# Altium integrated library Linear Technology PMIC-Switching Reg LTC1174-LTC3901.IntLib: 2647 symbols (part 189 of 310)
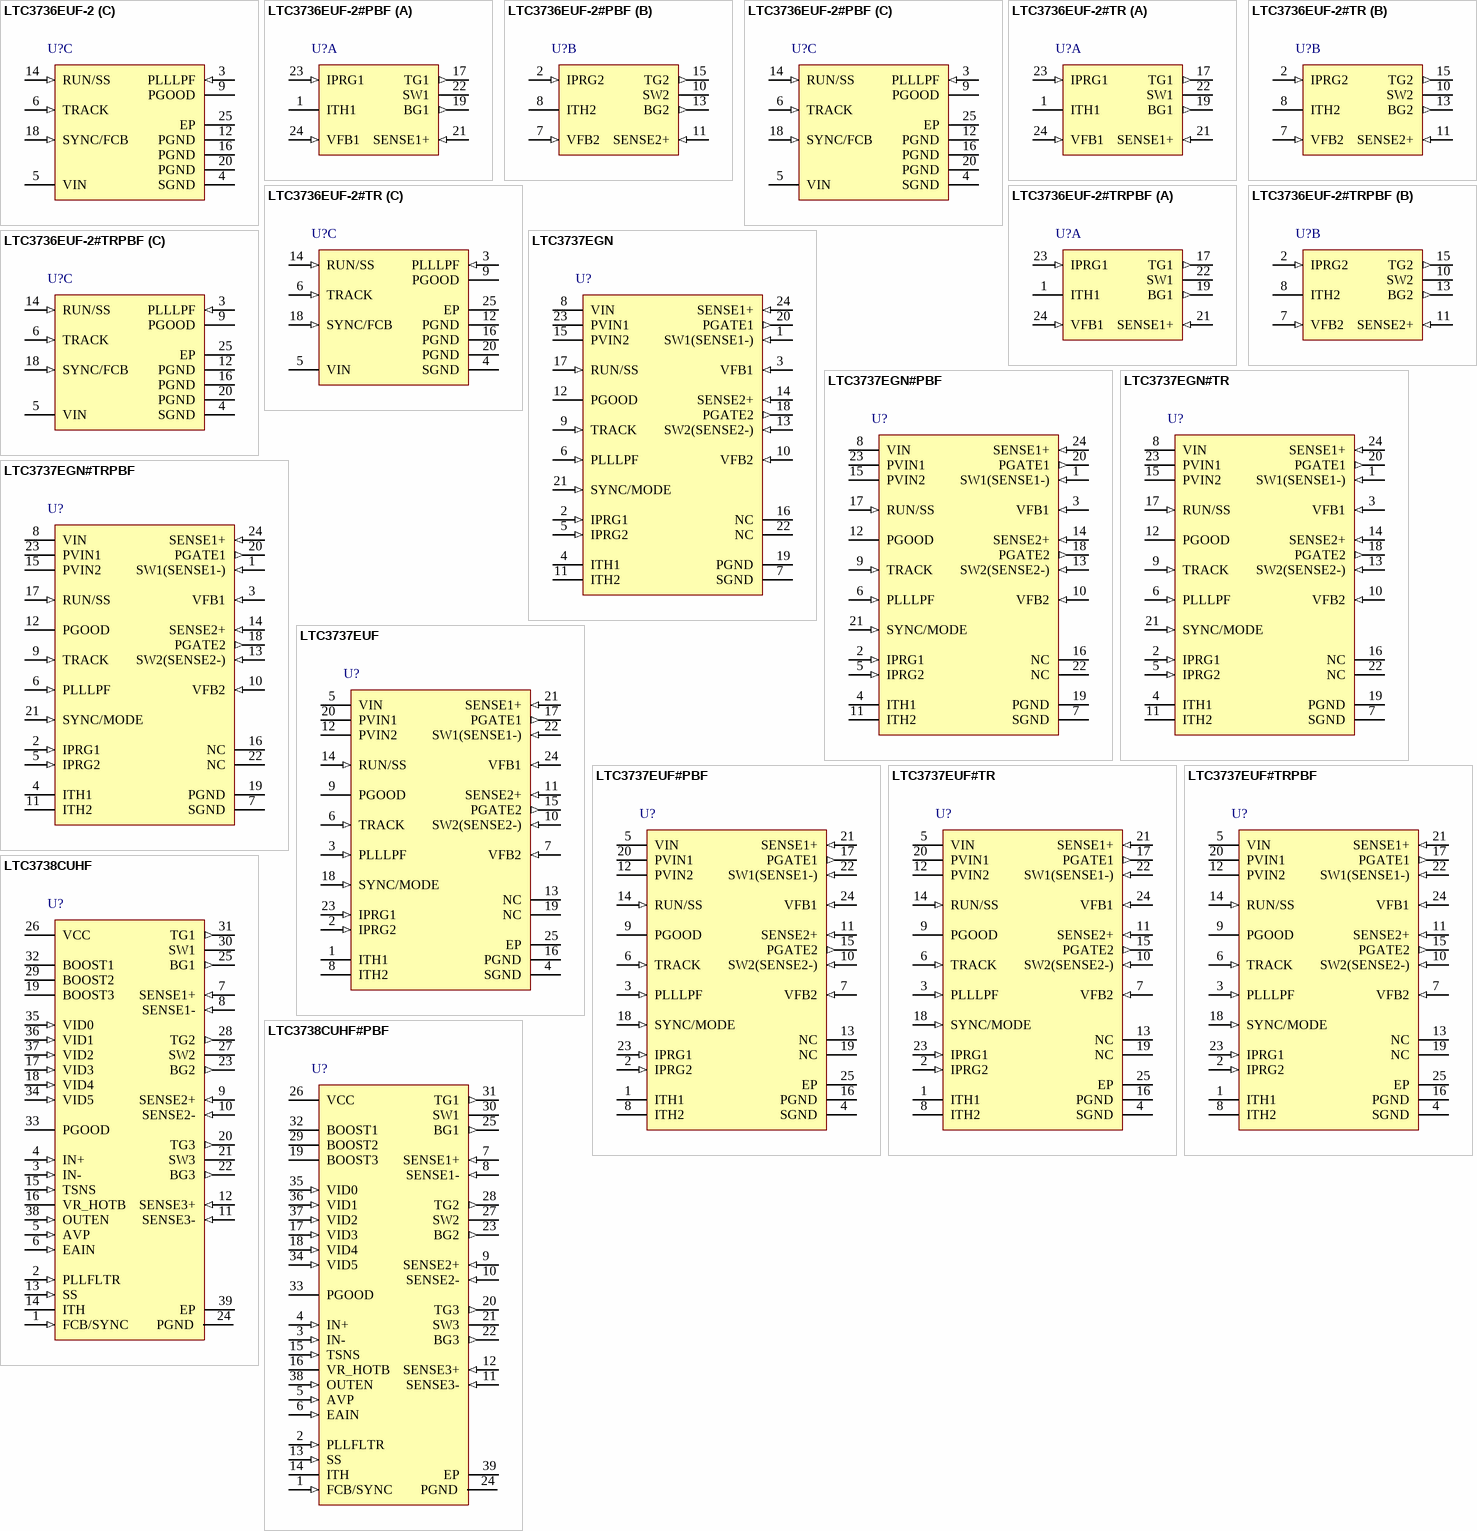
[diagram p225: symbols LTC3736EUF-2 to LTC3738CUHF#PBF]

## LTC3738CUHF
designator U?
3-Phase Buck Controller for Intel VRM9 / VRM10 with Active Voltage Positioning, 38-pin QFN (UHF-38), 0 to 85 degC; Manufacturer: Linear Technology; PartNumber: LTC3738CUHF; Number of Outputs: 1; PackageReference: UHF-38; PackageDescription: 38-Pin Plastic QFN, Body 7 x 5 mm, Pitch 0.5 mm; Supplier 1: Digi-Key; Supplier Part Number 1: LTC3738CUHF-ND; RoHS: FALSE; Code_JEDEC: MO-220
footprint LT-UHF-38_N (QFN, 38-Leads, Body 7.1x5.1mm, Pitch 0.5mm, Thermal Pad 3.15x5.15mm, IPC Medium Density)
footprint LT-UHF-38_L (QFN, 38-Leads, Body 7.1x5.1mm, Pitch 0.5mm, Thermal Pad 3.15x5.15mm, IPC High Density)
footprint LT-UHF-38_M (QFN, 38-Leads, Body 7.1x5.1mm, Pitch 0.5mm, Thermal Pad 3.15x5.15mm, IPC Low Density)
pins: 1 FCB/SYNC (in) "Forced Continuous Control Input. The voltage applied to this pin sets the operating mode of the controller. The forced continuous current mode is active when the applied voltage is less than 0.6V. Pulse skip mode operation (See Datasheet)", 2 PLLFLTR (in) "The phase-locked loop’s lowpass filter is tied to this pin. Alternatively, this pin can be driven with an AC or DC voltage source to vary the frequency of the internal oscillator. (Do not apply voltage to this pin prior t(See Datasheet)", 3 IN- (in) "Inputs to a Precision, Unity-Gain Differential Amplifier with Internal Precision Resistors. This provides true remote sensing of both the positive and negative load terminals for precise output voltage control.", 4 IN+ (in) "Inputs to a Precision, Unity-Gain Differential Amplifier with Internal Precision Resistors. This provides true remote sensing of both the positive and negative load terminals for precise output voltage control.", 5 AVP (in) "Active Voltage Positioning Load Slope Programming Pin. A resistor tied between this pin and IN+ sets the load slope.", 6 EAIN (in) "This is the input to the error amplifier which compares the VID divided feedback voltage to the internal 0.6V reference voltage.", 7 SENSE1+ (in) "The Inputs to Each Differential Current Comparator. The ITH pin voltage and built-in offsets between the SENSE-  and SENSE+  pins, in conjunction with RSENSE, set the current trip threshold level.", 8 SENSE1- (in) "The Inputs to Each Differential Current Comparator. The ITH pin voltage and built-in offsets between the SENSE-  and SENSE+  pins, in conjunction with RSENSE, set the current trip threshold level.", 9 SENSE2+ (in) "The Inputs to Each Differential Current Comparator. The ITH pin voltage and built-in offsets between the SENSE-  and SENSE+  pins, in conjunction with RSENSE, set the current trip threshold level.", 10 SENSE2- (in) "The Inputs to Each Differential Current Comparator. The ITH pin voltage and built-in offsets between the SENSE-  and SENSE+  pins, in conjunction with RSENSE, set the current trip threshold level.", 11 SENSE3- (in) "The Inputs to Each Differential Current Comparator. The ITH pin voltage and built-in offsets between the SENSE-  and SENSE+  pins, in conjunction with RSENSE, set the current trip threshold level.", 12 SENSE3+ (in) "The Inputs to Each Differential Current Comparator. The ITH pin voltage and built-in offsets between the SENSE-  and SENSE+  pins, in conjunction with RSENSE, set the current trip threshold level.", 13 SS (in) "Combination of Soft-Start and Short-Circuit Detection Timer. A capacitor to ground at this pin sets the ramp time to full current output as well as the time delay prior to an output voltage short-circuit shutdown.", 14 ITH "Error Amplifier Output and Switching Regulator Compensation Point. All three current comparator’s thresholds increase with this control voltage.", 15 TSNS (in) "This pin selects external or internal thermal detection. Tying this pin to VCC will enable the internal thermal detector. When the voltage at this pin is less than VCC - 1.6V, the internal thermal detector is disabled and (See Datasheet)", 16 VR_HOTB (oc) "This open-collector output is pulled low when voltage at the TSNS pin is less than VCC/3. If TSNS is tied to VCC, this pin is pulled low when the internal thermal detector is tripped.", 17 VID3 (in) "Output Voltage Programming Input Pins. When VID5 is tied to VCC, the Intel VRM9 VID table is selected. When voltage of VID5 is less than VCC - 2V, VID5 serves as the fifth VID bit of VRM10.", 18 VID4 (in) "Output Voltage Programming Input Pins. When VID5 is tied to VCC, the Intel VRM9 VID table is selected. When voltage of VID5 is less than VCC - 2V, VID5 serves as the fifth VID bit of VRM10.", 19 BOOST3 "Positive Supply Pins to the Topside Floating Drivers. Bootstrapped capacitors, charged with external Schottky diodes and a boost voltage source are connected between the BOOST and SW pins. Voltage swing at the BOOST pins is (See Datasheet)", 20 TG3 (out) "High Current Gate Drives for Top N-Channel MOSFETs. These are the outputs of the floating drivers with a voltage swing equal to the boost voltage source superimposed on the switch node voltage SW.", 21 SW3 "Switch Node Connections to Inductors. Voltage swing at these pins is from a Schottky diode (external) voltage drop below ground to VIN (where VIN is the external MOSFET supply rail).", 22 BG3 (out) "High Current Gate Drives for the Bottom N-Channel MOSFETs. Voltage swing at these pins is from ground to VCC.", 23 BG2 (out) "High Current Gate Drives for the Bottom N-Channel MOSFETs. Voltage swing at these pins is from ground to VCC.", 24 PGND (power) "Driver Power Ground. This pin connects to the sources of the bottom N-channel external MOSFETs and the (-) terminals of CIN.", 25 BG1 (out) "High Current Gate Drives for the Bottom N-Channel MOSFETs. Voltage swing at these pins is from ground to VCC.", 26 VCC (power) "Supply Pin. Because this pin supplies both the controller circuit power as well as the high power pulses supplied to drive the external MOSFET gates, this pin needs to be very carefully and closely decoupled to the IC’(See Datasheet)", 27 SW2 "Switch Node Connections to Inductors. Voltage swing at these pins is from a Schottky diode (external) voltage drop below ground to VIN (where VIN is the external MOSFET supply rail).", 28 TG2 (out) "High Current Gate Drives for Top N-Channel MOSFETs. These are the outputs of the floating drivers with a voltage swing equal to the boost voltage source superimposed on the switch node voltage SW.", 29 BOOST2 "Positive Supply Pins to the Topside Floating Drivers. Bootstrapped capacitors, charged with external Schottky diodes and a boost voltage source are connected between the BOOST and SW pins. Voltage swing at the BOOST pins is (See Datasheet)", 30 SW1 "Switch Node Connections to Inductors. Voltage swing at these pins is from a Schottky diode (external) voltage drop below ground to VIN (where VIN is the external MOSFET supply rail).", 31 TG1 (out) "High Current Gate Drives for Top N-Channel MOSFETs. These are the outputs of the floating drivers with a voltage swing equal to the boost voltage source superimposed on the switch node voltage SW.", 32 BOOST1 "Positive Supply Pins to the Topside Floating Drivers. Bootstrapped capacitors, charged with external Schottky diodes and a boost voltage source are connected between the BOOST and SW pins. Voltage swing at the BOOST pins is (See Datasheet)", 33 PGOOD (oc) "This open-drain output is pulled low when the output voltage is outside the PGOOD tolerance window. PGOOD is blanked during VID transitions for approximately 100us.", 34 VID5 (in) "Output Voltage Programming Input Pins. When VID5 is tied to VCC, the Intel VRM9 VID table is selected. When voltage of VID5 is less than VCC - 2V, VID5 serves as the fifth VID bit of VRM10.", 35 VID0 (in) "Output Voltage Programming Input Pins. When VID5 is tied to VCC, the Intel VRM9 VID table is selected. When voltage of VID5 is less than VCC - 2V, VID5 serves as the fifth VID bit of VRM10.", 36 VID1 (in) "Output Voltage Programming Input Pins. When VID5 is tied to VCC, the Intel VRM9 VID table is selected. When voltage of VID5 is less than VCC - 2V, VID5 serves as the fifth VID bit of VRM10.", 37 VID2 (in) "Output Voltage Programming Input Pins. When VID5 is tied to VCC, the Intel VRM9 VID table is selected. When voltage of VID5 is less than VCC - 2V, VID5 serves as the fifth VID bit of VRM10.", 38 OUTEN (in) "On/Off Control of the Controller.", 39 EP (power) "Signal Ground. This pin must be soldered to the ground plane."

## LTC3738CUHF#PBF
designator U?
3-Phase Buck Controller for Intel VRM9 / VRM10 with Active Voltage Positioning, 38-pin QFN (UHF-38), 0 to 85 degC, Pb-Free; Manufacturer: Linear Technology; PartNumber: LTC3738CUHF#PBF; Number of Outputs: 1; PackageReference: UHF-38; PackageDescription: 38-Pin Plastic QFN, Body 7 x 5 mm, Pitch 0.5 mm; Supplier 1: Digi-Key; Supplier Part Number 1: LTC3738CUHF#PBF-ND; RoHS: TRUE; Code_JEDEC: MO-220
footprint LT-UHF-38_N (QFN, 38-Leads, Body 7.1x5.1mm, Pitch 0.5mm, Thermal Pad 3.15x5.15mm, IPC Medium Density)
footprint LT-UHF-38_L (QFN, 38-Leads, Body 7.1x5.1mm, Pitch 0.5mm, Thermal Pad 3.15x5.15mm, IPC High Density)
footprint LT-UHF-38_M (QFN, 38-Leads, Body 7.1x5.1mm, Pitch 0.5mm, Thermal Pad 3.15x5.15mm, IPC Low Density)
pins: 1 FCB/SYNC (in) "Forced Continuous Control Input. The voltage applied to this pin sets the operating mode of the controller. The forced continuous current mode is active when the applied voltage is less than 0.6V. Pulse skip mode operation (See Datasheet)", 2 PLLFLTR (in) "The phase-locked loop’s lowpass filter is tied to this pin. Alternatively, this pin can be driven with an AC or DC voltage source to vary the frequency of the internal oscillator. (Do not apply voltage to this pin prior t(See Datasheet)", 3 IN- (in) "Inputs to a Precision, Unity-Gain Differential Amplifier with Internal Precision Resistors. This provides true remote sensing of both the positive and negative load terminals for precise output voltage control.", 4 IN+ (in) "Inputs to a Precision, Unity-Gain Differential Amplifier with Internal Precision Resistors. This provides true remote sensing of both the positive and negative load terminals for precise output voltage control.", 5 AVP (in) "Active Voltage Positioning Load Slope Programming Pin. A resistor tied between this pin and IN+ sets the load slope.", 6 EAIN (in) "This is the input to the error amplifier which compares the VID divided feedback voltage to the internal 0.6V reference voltage.", 7 SENSE1+ (in) "The Inputs to Each Differential Current Comparator. The ITH pin voltage and built-in offsets between the SENSE-  and SENSE+  pins, in conjunction with RSENSE, set the current trip threshold level.", 8 SENSE1- (in) "The Inputs to Each Differential Current Comparator. The ITH pin voltage and built-in offsets between the SENSE-  and SENSE+  pins, in conjunction with RSENSE, set the current trip threshold level.", 9 SENSE2+ (in) "The Inputs to Each Differential Current Comparator. The ITH pin voltage and built-in offsets between the SENSE-  and SENSE+  pins, in conjunction with RSENSE, set the current trip threshold level.", 10 SENSE2- (in) "The Inputs to Each Differential Current Comparator. The ITH pin voltage and built-in offsets between the SENSE-  and SENSE+  pins, in conjunction with RSENSE, set the current trip threshold level.", 11 SENSE3- (in) "The Inputs to Each Differential Current Comparator. The ITH pin voltage and built-in offsets between the SENSE-  and SENSE+  pins, in conjunction with RSENSE, set the current trip threshold level.", 12 SENSE3+ (in) "The Inputs to Each Differential Current Comparator. The ITH pin voltage and built-in offsets between the SENSE-  and SENSE+  pins, in conjunction with RSENSE, set the current trip threshold level.", 13 SS (in) "Combination of Soft-Start and Short-Circuit Detection Timer. A capacitor to ground at this pin sets the ramp time to full current output as well as the time delay prior to an output voltage short-circuit shutdown.", 14 ITH "Error Amplifier Output and Switching Regulator Compensation Point. All three current comparator’s thresholds increase with this control voltage.", 15 TSNS (in) "This pin selects external or internal thermal detection. Tying this pin to VCC will enable the internal thermal detector. When the voltage at this pin is less than VCC - 1.6V, the internal thermal detector is disabled and (See Datasheet)", 16 VR_HOTB (oc) "This open-collector output is pulled low when voltage at the TSNS pin is less than VCC/3. If TSNS is tied to VCC, this pin is pulled low when the internal thermal detector is tripped.", 17 VID3 (in) "Output Voltage Programming Input Pins. When VID5 is tied to VCC, the Intel VRM9 VID table is selected. When voltage of VID5 is less than VCC - 2V, VID5 serves as the fifth VID bit of VRM10.", 18 VID4 (in) "Output Voltage Programming Input Pins. When VID5 is tied to VCC, the Intel VRM9 VID table is selected. When voltage of VID5 is less than VCC - 2V, VID5 serves as the fifth VID bit of VRM10.", 19 BOOST3 "Positive Supply Pins to the Topside Floating Drivers. Bootstrapped capacitors, charged with external Schottky diodes and a boost voltage source are connected between the BOOST and SW pins. Voltage swing at the BOOST pins is (See Datasheet)", 20 TG3 (out) "High Current Gate Drives for Top N-Channel MOSFETs. These are the outputs of the floating drivers with a voltage swing equal to the boost voltage source superimposed on the switch node voltage SW.", 21 SW3 "Switch Node Connections to Inductors. Voltage swing at these pins is from a Schottky diode (external) voltage drop below ground to VIN (where VIN is the external MOSFET supply rail).", 22 BG3 (out) "High Current Gate Drives for the Bottom N-Channel MOSFETs. Voltage swing at these pins is from ground to VCC.", 23 BG2 (out) "High Current Gate Drives for the Bottom N-Channel MOSFETs. Voltage swing at these pins is from ground to VCC.", 24 PGND (power) "Driver Power Ground. This pin connects to the sources of the bottom N-channel external MOSFETs and the (-) terminals of CIN.", 25 BG1 (out) "High Current Gate Drives for the Bottom N-Channel MOSFETs. Voltage swing at these pins is from ground to VCC.", 26 VCC (power) "Supply Pin. Because this pin supplies both the controller circuit power as well as the high power pulses supplied to drive the external MOSFET gates, this pin needs to be very carefully and closely decoupled to the IC’(See Datasheet)", 27 SW2 "Switch Node Connections to Inductors. Voltage swing at these pins is from a Schottky diode (external) voltage drop below ground to VIN (where VIN is the external MOSFET supply rail).", 28 TG2 (out) "High Current Gate Drives for Top N-Channel MOSFETs. These are the outputs of the floating drivers with a voltage swing equal to the boost voltage source superimposed on the switch node voltage SW.", 29 BOOST2 "Positive Supply Pins to the Topside Floating Drivers. Bootstrapped capacitors, charged with external Schottky diodes and a boost voltage source are connected between the BOOST and SW pins. Voltage swing at the BOOST pins is (See Datasheet)", 30 SW1 "Switch Node Connections to Inductors. Voltage swing at these pins is from a Schottky diode (external) voltage drop below ground to VIN (where VIN is the external MOSFET supply rail).", 31 TG1 (out) "High Current Gate Drives for Top N-Channel MOSFETs. These are the outputs of the floating drivers with a voltage swing equal to the boost voltage source superimposed on the switch node voltage SW.", 32 BOOST1 "Positive Supply Pins to the Topside Floating Drivers. Bootstrapped capacitors, charged with external Schottky diodes and a boost voltage source are connected between the BOOST and SW pins. Voltage swing at the BOOST pins is (See Datasheet)", 33 PGOOD (oc) "This open-drain output is pulled low when the output voltage is outside the PGOOD tolerance window. PGOOD is blanked during VID transitions for approximately 100us.", 34 VID5 (in) "Output Voltage Programming Input Pins. When VID5 is tied to VCC, the Intel VRM9 VID table is selected. When voltage of VID5 is less than VCC - 2V, VID5 serves as the fifth VID bit of VRM10.", 35 VID0 (in) "Output Voltage Programming Input Pins. When VID5 is tied to VCC, the Intel VRM9 VID table is selected. When voltage of VID5 is less than VCC - 2V, VID5 serves as the fifth VID bit of VRM10.", 36 VID1 (in) "Output Voltage Programming Input Pins. When VID5 is tied to VCC, the Intel VRM9 VID table is selected. When voltage of VID5 is less than VCC - 2V, VID5 serves as the fifth VID bit of VRM10.", 37 VID2 (in) "Output Voltage Programming Input Pins. When VID5 is tied to VCC, the Intel VRM9 VID table is selected. When voltage of VID5 is less than VCC - 2V, VID5 serves as the fifth VID bit of VRM10.", 38 OUTEN (in) "On/Off Control of the Controller.", 39 EP (power) "Signal Ground. This pin must be soldered to the ground plane."

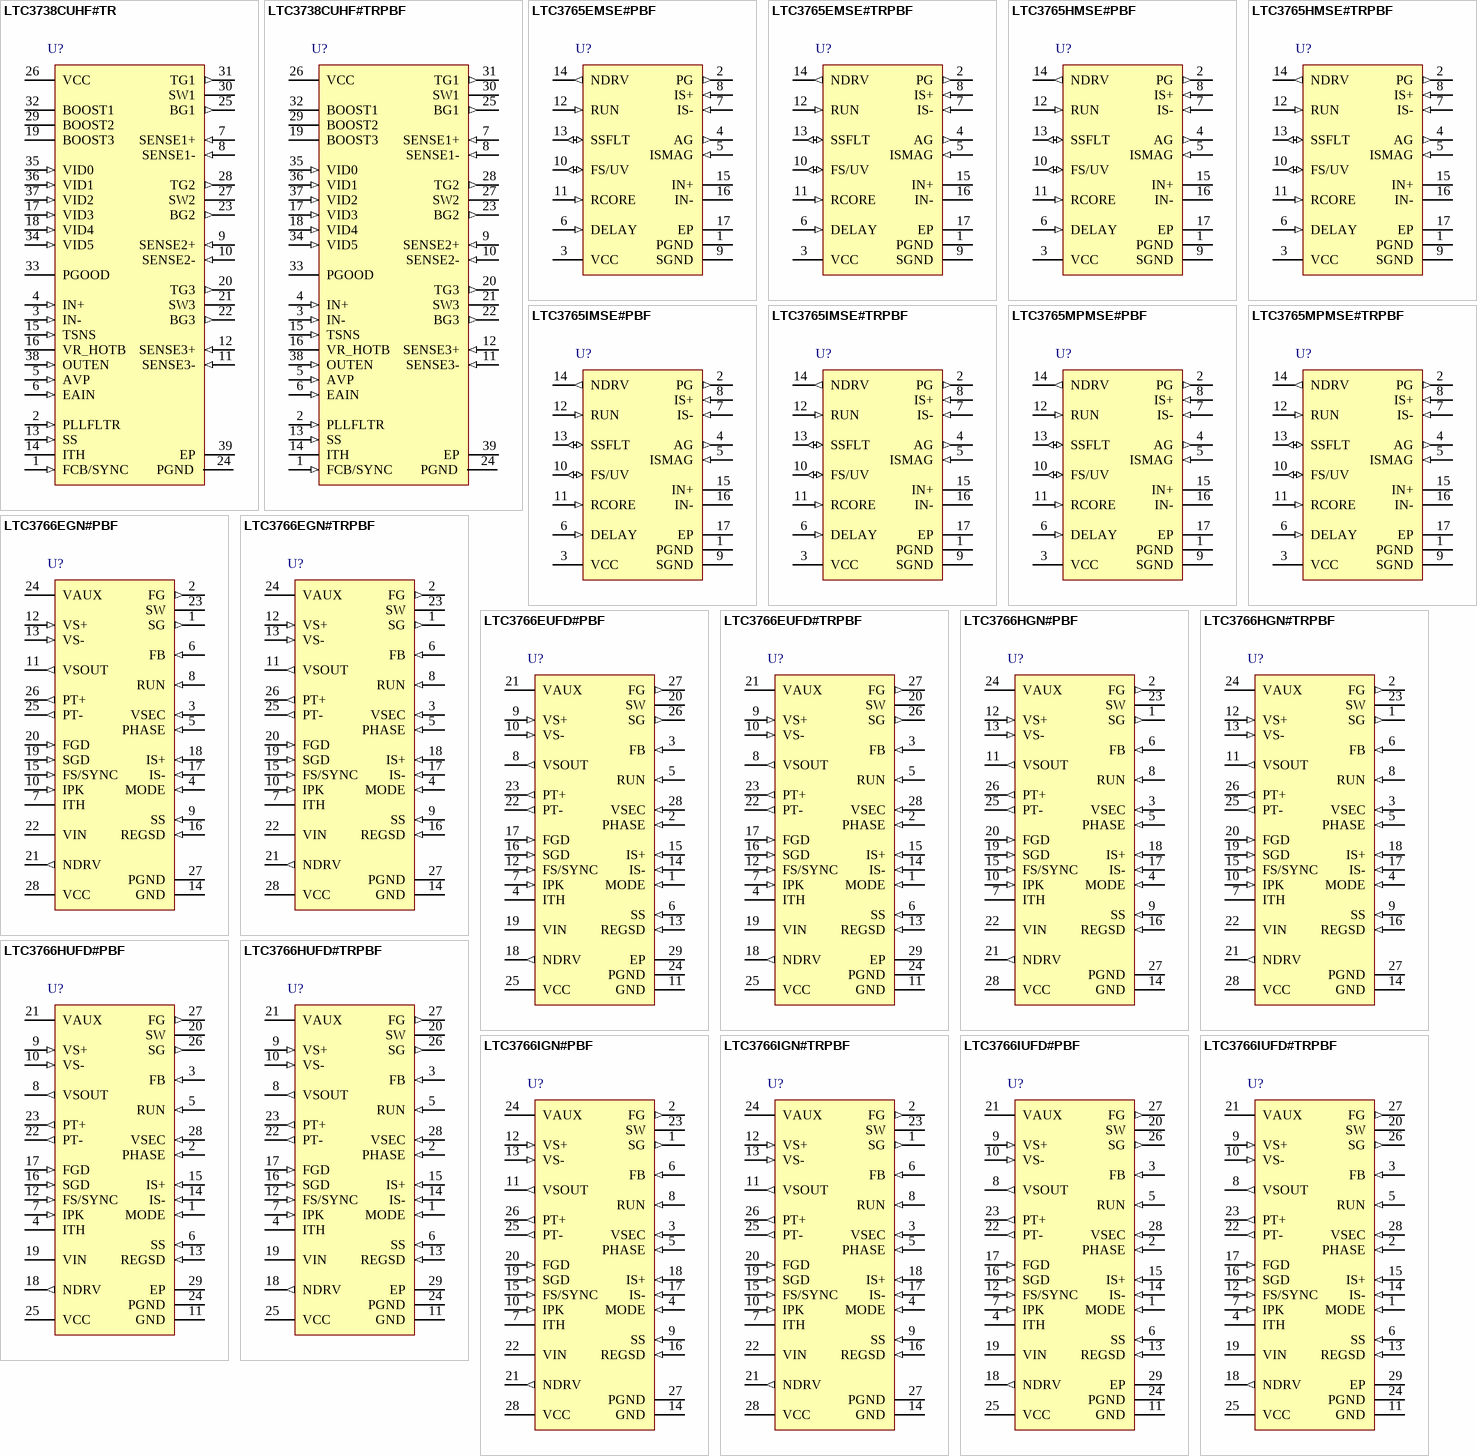
[diagram p67: symbols LTC3738CUHF#TR to LTC3766IUFD#TRPBF]

## LTC3738CUHF#TR
designator U?
3-Phase Buck Controller for Intel VRM9 / VRM10 with Active Voltage Positioning, 38-pin QFN (UHF-38), 0 to 85 degC, Tape and Reel; Manufacturer: Linear Technology; PartNumber: LTC3738CUHF#TR; Number of Outputs: 1; PackageReference: UHF-38; PackageDescription: 38-Pin Plastic QFN, Body 7 x 5 mm, Pitch 0.5 mm; Supplier 1: Digi-Key; Supplier Part Number 1: LTC3738CUHF#TR-ND; RoHS: FALSE; Code_JEDEC: MO-220
footprint LT-UHF-38_N (QFN, 38-Leads, Body 7.1x5.1mm, Pitch 0.5mm, Thermal Pad 3.15x5.15mm, IPC Medium Density)
footprint LT-UHF-38_L (QFN, 38-Leads, Body 7.1x5.1mm, Pitch 0.5mm, Thermal Pad 3.15x5.15mm, IPC High Density)
footprint LT-UHF-38_M (QFN, 38-Leads, Body 7.1x5.1mm, Pitch 0.5mm, Thermal Pad 3.15x5.15mm, IPC Low Density)
pins: 1 FCB/SYNC (in) "Forced Continuous Control Input. The voltage applied to this pin sets the operating mode of the controller. The forced continuous current mode is active when the applied voltage is less than 0.6V. Pulse skip mode operation (See Datasheet)", 2 PLLFLTR (in) "The phase-locked loop’s lowpass filter is tied to this pin. Alternatively, this pin can be driven with an AC or DC voltage source to vary the frequency of the internal oscillator. (Do not apply voltage to this pin prior t(See Datasheet)", 3 IN- (in) "Inputs to a Precision, Unity-Gain Differential Amplifier with Internal Precision Resistors. This provides true remote sensing of both the positive and negative load terminals for precise output voltage control.", 4 IN+ (in) "Inputs to a Precision, Unity-Gain Differential Amplifier with Internal Precision Resistors. This provides true remote sensing of both the positive and negative load terminals for precise output voltage control.", 5 AVP (in) "Active Voltage Positioning Load Slope Programming Pin. A resistor tied between this pin and IN+ sets the load slope.", 6 EAIN (in) "This is the input to the error amplifier which compares the VID divided feedback voltage to the internal 0.6V reference voltage.", 7 SENSE1+ (in) "The Inputs to Each Differential Current Comparator. The ITH pin voltage and built-in offsets between the SENSE-  and SENSE+  pins, in conjunction with RSENSE, set the current trip threshold level.", 8 SENSE1- (in) "The Inputs to Each Differential Current Comparator. The ITH pin voltage and built-in offsets between the SENSE-  and SENSE+  pins, in conjunction with RSENSE, set the current trip threshold level.", 9 SENSE2+ (in) "The Inputs to Each Differential Current Comparator. The ITH pin voltage and built-in offsets between the SENSE-  and SENSE+  pins, in conjunction with RSENSE, set the current trip threshold level.", 10 SENSE2- (in) "The Inputs to Each Differential Current Comparator. The ITH pin voltage and built-in offsets between the SENSE-  and SENSE+  pins, in conjunction with RSENSE, set the current trip threshold level.", 11 SENSE3- (in) "The Inputs to Each Differential Current Comparator. The ITH pin voltage and built-in offsets between the SENSE-  and SENSE+  pins, in conjunction with RSENSE, set the current trip threshold level.", 12 SENSE3+ (in) "The Inputs to Each Differential Current Comparator. The ITH pin voltage and built-in offsets between the SENSE-  and SENSE+  pins, in conjunction with RSENSE, set the current trip threshold level.", 13 SS (in) "Combination of Soft-Start and Short-Circuit Detection Timer. A capacitor to ground at this pin sets the ramp time to full current output as well as the time delay prior to an output voltage short-circuit shutdown.", 14 ITH "Error Amplifier Output and Switching Regulator Compensation Point. All three current comparator’s thresholds increase with this control voltage.", 15 TSNS (in) "This pin selects external or internal thermal detection. Tying this pin to VCC will enable the internal thermal detector. When the voltage at this pin is less than VCC - 1.6V, the internal thermal detector is disabled and (See Datasheet)", 16 VR_HOTB (oc) "This open-collector output is pulled low when voltage at the TSNS pin is less than VCC/3. If TSNS is tied to VCC, this pin is pulled low when the internal thermal detector is tripped.", 17 VID3 (in) "Output Voltage Programming Input Pins. When VID5 is tied to VCC, the Intel VRM9 VID table is selected. When voltage of VID5 is less than VCC - 2V, VID5 serves as the fifth VID bit of VRM10.", 18 VID4 (in) "Output Voltage Programming Input Pins. When VID5 is tied to VCC, the Intel VRM9 VID table is selected. When voltage of VID5 is less than VCC - 2V, VID5 serves as the fifth VID bit of VRM10.", 19 BOOST3 "Positive Supply Pins to the Topside Floating Drivers. Bootstrapped capacitors, charged with external Schottky diodes and a boost voltage source are connected between the BOOST and SW pins. Voltage swing at the BOOST pins is (See Datasheet)", 20 TG3 (out) "High Current Gate Drives for Top N-Channel MOSFETs. These are the outputs of the floating drivers with a voltage swing equal to the boost voltage source superimposed on the switch node voltage SW.", 21 SW3 "Switch Node Connections to Inductors. Voltage swing at these pins is from a Schottky diode (external) voltage drop below ground to VIN (where VIN is the external MOSFET supply rail).", 22 BG3 (out) "High Current Gate Drives for the Bottom N-Channel MOSFETs. Voltage swing at these pins is from ground to VCC.", 23 BG2 (out) "High Current Gate Drives for the Bottom N-Channel MOSFETs. Voltage swing at these pins is from ground to VCC.", 24 PGND (power) "Driver Power Ground. This pin connects to the sources of the bottom N-channel external MOSFETs and the (-) terminals of CIN.", 25 BG1 (out) "High Current Gate Drives for the Bottom N-Channel MOSFETs. Voltage swing at these pins is from ground to VCC.", 26 VCC (power) "Supply Pin. Because this pin supplies both the controller circuit power as well as the high power pulses supplied to drive the external MOSFET gates, this pin needs to be very carefully and closely decoupled to the IC’(See Datasheet)", 27 SW2 "Switch Node Connections to Inductors. Voltage swing at these pins is from a Schottky diode (external) voltage drop below ground to VIN (where VIN is the external MOSFET supply rail).", 28 TG2 (out) "High Current Gate Drives for Top N-Channel MOSFETs. These are the outputs of the floating drivers with a voltage swing equal to the boost voltage source superimposed on the switch node voltage SW.", 29 BOOST2 "Positive Supply Pins to the Topside Floating Drivers. Bootstrapped capacitors, charged with external Schottky diodes and a boost voltage source are connected between the BOOST and SW pins. Voltage swing at the BOOST pins is (See Datasheet)", 30 SW1 "Switch Node Connections to Inductors. Voltage swing at these pins is from a Schottky diode (external) voltage drop below ground to VIN (where VIN is the external MOSFET supply rail).", 31 TG1 (out) "High Current Gate Drives for Top N-Channel MOSFETs. These are the outputs of the floating drivers with a voltage swing equal to the boost voltage source superimposed on the switch node voltage SW.", 32 BOOST1 "Positive Supply Pins to the Topside Floating Drivers. Bootstrapped capacitors, charged with external Schottky diodes and a boost voltage source are connected between the BOOST and SW pins. Voltage swing at the BOOST pins is (See Datasheet)", 33 PGOOD (oc) "This open-drain output is pulled low when the output voltage is outside the PGOOD tolerance window. PGOOD is blanked during VID transitions for approximately 100us.", 34 VID5 (in) "Output Voltage Programming Input Pins. When VID5 is tied to VCC, the Intel VRM9 VID table is selected. When voltage of VID5 is less than VCC - 2V, VID5 serves as the fifth VID bit of VRM10.", 35 VID0 (in) "Output Voltage Programming Input Pins. When VID5 is tied to VCC, the Intel VRM9 VID table is selected. When voltage of VID5 is less than VCC - 2V, VID5 serves as the fifth VID bit of VRM10.", 36 VID1 (in) "Output Voltage Programming Input Pins. When VID5 is tied to VCC, the Intel VRM9 VID table is selected. When voltage of VID5 is less than VCC - 2V, VID5 serves as the fifth VID bit of VRM10.", 37 VID2 (in) "Output Voltage Programming Input Pins. When VID5 is tied to VCC, the Intel VRM9 VID table is selected. When voltage of VID5 is less than VCC - 2V, VID5 serves as the fifth VID bit of VRM10.", 38 OUTEN (in) "On/Off Control of the Controller.", 39 EP (power) "Signal Ground. This pin must be soldered to the ground plane."

## LTC3738CUHF#TRPBF
designator U?
3-Phase Buck Controller for Intel VRM9 / VRM10 with Active Voltage Positioning, 38-pin QFN (UHF-38), 0 to 85 degC, Pb-Free, Tape and Reel; Manufacturer: Linear Technology; PartNumber: LTC3738CUHF#TRPBF; Number of Outputs: 1; PackageReference: UHF-38; PackageDescription: 38-Pin Plastic QFN, Body 7 x 5 mm, Pitch 0.5 mm; Supplier 1: Digi-Key; Supplier Part Number 1: LTC3738CUHF#TRPBF-ND; RoHS: TRUE; Code_JEDEC: MO-220
footprint LT-UHF-38_N (QFN, 38-Leads, Body 7.1x5.1mm, Pitch 0.5mm, Thermal Pad 3.15x5.15mm, IPC Medium Density)
footprint LT-UHF-38_L (QFN, 38-Leads, Body 7.1x5.1mm, Pitch 0.5mm, Thermal Pad 3.15x5.15mm, IPC High Density)
footprint LT-UHF-38_M (QFN, 38-Leads, Body 7.1x5.1mm, Pitch 0.5mm, Thermal Pad 3.15x5.15mm, IPC Low Density)
pins: 1 FCB/SYNC (in) "Forced Continuous Control Input. The voltage applied to this pin sets the operating mode of the controller. The forced continuous current mode is active when the applied voltage is less than 0.6V. Pulse skip mode operation (See Datasheet)", 2 PLLFLTR (in) "The phase-locked loop’s lowpass filter is tied to this pin. Alternatively, this pin can be driven with an AC or DC voltage source to vary the frequency of the internal oscillator. (Do not apply voltage to this pin prior t(See Datasheet)", 3 IN- (in) "Inputs to a Precision, Unity-Gain Differential Amplifier with Internal Precision Resistors. This provides true remote sensing of both the positive and negative load terminals for precise output voltage control.", 4 IN+ (in) "Inputs to a Precision, Unity-Gain Differential Amplifier with Internal Precision Resistors. This provides true remote sensing of both the positive and negative load terminals for precise output voltage control.", 5 AVP (in) "Active Voltage Positioning Load Slope Programming Pin. A resistor tied between this pin and IN+ sets the load slope.", 6 EAIN (in) "This is the input to the error amplifier which compares the VID divided feedback voltage to the internal 0.6V reference voltage.", 7 SENSE1+ (in) "The Inputs to Each Differential Current Comparator. The ITH pin voltage and built-in offsets between the SENSE-  and SENSE+  pins, in conjunction with RSENSE, set the current trip threshold level.", 8 SENSE1- (in) "The Inputs to Each Differential Current Comparator. The ITH pin voltage and built-in offsets between the SENSE-  and SENSE+  pins, in conjunction with RSENSE, set the current trip threshold level.", 9 SENSE2+ (in) "The Inputs to Each Differential Current Comparator. The ITH pin voltage and built-in offsets between the SENSE-  and SENSE+  pins, in conjunction with RSENSE, set the current trip threshold level.", 10 SENSE2- (in) "The Inputs to Each Differential Current Comparator. The ITH pin voltage and built-in offsets between the SENSE-  and SENSE+  pins, in conjunction with RSENSE, set the current trip threshold level.", 11 SENSE3- (in) "The Inputs to Each Differential Current Comparator. The ITH pin voltage and built-in offsets between the SENSE-  and SENSE+  pins, in conjunction with RSENSE, set the current trip threshold level.", 12 SENSE3+ (in) "The Inputs to Each Differential Current Comparator. The ITH pin voltage and built-in offsets between the SENSE-  and SENSE+  pins, in conjunction with RSENSE, set the current trip threshold level.", 13 SS (in) "Combination of Soft-Start and Short-Circuit Detection Timer. A capacitor to ground at this pin sets the ramp time to full current output as well as the time delay prior to an output voltage short-circuit shutdown.", 14 ITH "Error Amplifier Output and Switching Regulator Compensation Point. All three current comparator’s thresholds increase with this control voltage.", 15 TSNS (in) "This pin selects external or internal thermal detection. Tying this pin to VCC will enable the internal thermal detector. When the voltage at this pin is less than VCC - 1.6V, the internal thermal detector is disabled and (See Datasheet)", 16 VR_HOTB (oc) "This open-collector output is pulled low when voltage at the TSNS pin is less than VCC/3. If TSNS is tied to VCC, this pin is pulled low when the internal thermal detector is tripped.", 17 VID3 (in) "Output Voltage Programming Input Pins. When VID5 is tied to VCC, the Intel VRM9 VID table is selected. When voltage of VID5 is less than VCC - 2V, VID5 serves as the fifth VID bit of VRM10.", 18 VID4 (in) "Output Voltage Programming Input Pins. When VID5 is tied to VCC, the Intel VRM9 VID table is selected. When voltage of VID5 is less than VCC - 2V, VID5 serves as the fifth VID bit of VRM10.", 19 BOOST3 "Positive Supply Pins to the Topside Floating Drivers. Bootstrapped capacitors, charged with external Schottky diodes and a boost voltage source are connected between the BOOST and SW pins. Voltage swing at the BOOST pins is (See Datasheet)", 20 TG3 (out) "High Current Gate Drives for Top N-Channel MOSFETs. These are the outputs of the floating drivers with a voltage swing equal to the boost voltage source superimposed on the switch node voltage SW.", 21 SW3 "Switch Node Connections to Inductors. Voltage swing at these pins is from a Schottky diode (external) voltage drop below ground to VIN (where VIN is the external MOSFET supply rail).", 22 BG3 (out) "High Current Gate Drives for the Bottom N-Channel MOSFETs. Voltage swing at these pins is from ground to VCC.", 23 BG2 (out) "High Current Gate Drives for the Bottom N-Channel MOSFETs. Voltage swing at these pins is from ground to VCC.", 24 PGND (power) "Driver Power Ground. This pin connects to the sources of the bottom N-channel external MOSFETs and the (-) terminals of CIN.", 25 BG1 (out) "High Current Gate Drives for the Bottom N-Channel MOSFETs. Voltage swing at these pins is from ground to VCC.", 26 VCC (power) "Supply Pin. Because this pin supplies both the controller circuit power as well as the high power pulses supplied to drive the external MOSFET gates, this pin needs to be very carefully and closely decoupled to the IC’(See Datasheet)", 27 SW2 "Switch Node Connections to Inductors. Voltage swing at these pins is from a Schottky diode (external) voltage drop below ground to VIN (where VIN is the external MOSFET supply rail).", 28 TG2 (out) "High Current Gate Drives for Top N-Channel MOSFETs. These are the outputs of the floating drivers with a voltage swing equal to the boost voltage source superimposed on the switch node voltage SW.", 29 BOOST2 "Positive Supply Pins to the Topside Floating Drivers. Bootstrapped capacitors, charged with external Schottky diodes and a boost voltage source are connected between the BOOST and SW pins. Voltage swing at the BOOST pins is (See Datasheet)", 30 SW1 "Switch Node Connections to Inductors. Voltage swing at these pins is from a Schottky diode (external) voltage drop below ground to VIN (where VIN is the external MOSFET supply rail).", 31 TG1 (out) "High Current Gate Drives for Top N-Channel MOSFETs. These are the outputs of the floating drivers with a voltage swing equal to the boost voltage source superimposed on the switch node voltage SW.", 32 BOOST1 "Positive Supply Pins to the Topside Floating Drivers. Bootstrapped capacitors, charged with external Schottky diodes and a boost voltage source are connected between the BOOST and SW pins. Voltage swing at the BOOST pins is (See Datasheet)", 33 PGOOD (oc) "This open-drain output is pulled low when the output voltage is outside the PGOOD tolerance window. PGOOD is blanked during VID transitions for approximately 100us.", 34 VID5 (in) "Output Voltage Programming Input Pins. When VID5 is tied to VCC, the Intel VRM9 VID table is selected. When voltage of VID5 is less than VCC - 2V, VID5 serves as the fifth VID bit of VRM10.", 35 VID0 (in) "Output Voltage Programming Input Pins. When VID5 is tied to VCC, the Intel VRM9 VID table is selected. When voltage of VID5 is less than VCC - 2V, VID5 serves as the fifth VID bit of VRM10.", 36 VID1 (in) "Output Voltage Programming Input Pins. When VID5 is tied to VCC, the Intel VRM9 VID table is selected. When voltage of VID5 is less than VCC - 2V, VID5 serves as the fifth VID bit of VRM10.", 37 VID2 (in) "Output Voltage Programming Input Pins. When VID5 is tied to VCC, the Intel VRM9 VID table is selected. When voltage of VID5 is less than VCC - 2V, VID5 serves as the fifth VID bit of VRM10.", 38 OUTEN (in) "On/Off Control of the Controller.", 39 EP (power) "Signal Ground. This pin must be soldered to the ground plane."

## LTC3765EMSE#PBF
designator U?
Active Clamp Forward Controller and Gate Driver, 16-pin SOP (MSE-16-EDP), -40 to 125 degC, Pb-Free; Manufacturer: Linear Technology; PartNumber: LTC3765EMSE#PBF; Number of Outputs: 1; PackageReference: MSE-16; PackageDescription: 16-Pin Plastic MSOP, Exposed Die Pad, Body 4.039 x 3 mm, Pitch 0.5 mm; Supplier 1: Digi-Key; Supplier Part Number 1: LTC3765EMSE#PBF-ND; RoHS: TRUE
footprint LT-MSE-16-EDP_N (SOP, 16-Leads, Body 4.1x3.1mm, Pitch 0.5mm, Thermal Pad 2.95x1.76mm, IPC Medium Density)
footprint LT-MSE-16-EDP_L (SOP, 16-Leads, Body 4.1x3.1mm, Pitch 0.5mm, Thermal Pad 2.95x1.76mm, IPC High Density)
footprint LT-MSE-16-EDP_M (SOP, 16-Leads, Body 4.1x3.1mm, Pitch 0.5mm, Thermal Pad 2.95x1.76mm, IPC Low Density)
pins: 1 PGND (power) "Power Ground. Ground return for the high current gate drivers.", 2 PG (out) "Primary Gate. Gate drive for the primary switch NMOS.", 3 VCC (power) "Main Supply Pin. A ceramic bypass capacitor should be tied between this pin and ground.", 4 AG (out) "Active Gate. Gate drive for the active clamp PMOS. This drive output is “in phase?with the PG output. Connect to the gate of a PMOS through a capacitive level-shift circuit.", 5 ISMAG (in) "Magnetizing Current Sense Pin. Connect to a current sense resistor in series with the source of the active clamp PMOS. This pin limits the magnetizing current of the main transformer to prevent core saturation when the (See Datasheet)", 6 DELAY (in) "Primary Gate Rising Delay Adjustment. A resistor from this pin to ground sets the AG rising to PG rising dead time, which is critical for optimizing efficiency.", 7 IS- (in) "Inputs to the Overcurrent Comparator. Connect across a current sense resistor in series with the source of the primary NMOS.", 8 IS+ (in) "Inputs to the Overcurrent Comparator. Connect across a current sense resistor in series with the source of the primary NMOS.", 9 SGND (power) "Signal Ground. The exposed pad metal of the package provides good thermal contact to the printed circuit board. It must be soldered to a ground plane for rated thermal performance.", 10 FS/UV (io) "Oscillator Frequency Set and Undervoltage Indicator. A resistor to ground sets the switching frequency during start-up. When the RUN pin is low, the VCC supply is undervoltage, or the overtemperature protection is active, a (See Datasheet)", 11 RCORE (in) "Transformer Core Saturation Limit. A resistor from RCORE to ground proportional to transformer core parameters internally replicates the magnetizing current slope when the primary NMOS is on. This slope in combination with (See Datasheet)", 12 RUN (in) "Run Control and Undervoltage Lockout (UVLO). Connect to a resistor divider to monitor the input voltage VIN, which is required for proper operation of the Direct Flux Limit. Converter operation is enabled for VRUN > 1.25V. (See Datasheet)", 13 SSFLT (io) "Combination Soft-Start and Fault Indicator. A capacitor to ground sets the duty cycle ramp-up rate during primary-side start-up. To indicate a fault, the SSFLT pin is momentarily pulled above 6V.", 14 NDRV (out) "Drive for External Linear Regulator. Connect to the gate of an NMOS and connect a pull-up resistor to the main input voltage, VIN. An internal charge pump drives this pin above VIN for low input voltage applications.", 15 IN+ (power) "Inputs from Pulse Transformer. Connect through a DC restoring capacitor to the output winding of a pulse transformer. The input winding of the pulse transformer is driven by the LTC3766. After performing an initial open-loop (See Datasheet)", 16 IN- (power) "Inputs from Pulse Transformer. Connect through a DC restoring capacitor to the output winding of a pulse transformer. The input winding of the pulse transformer is driven by the LTC3766. After performing an initial open-loop (See Datasheet)", 17 EP (power) "Signal Ground. The exposed pad metal of the package provides good thermal contact to the printed circuit board. It must be soldered to a ground plane for rated thermal performance."

## LTC3765EMSE#TRPBF
designator U?
Active Clamp Forward Controller and Gate Driver, 16-pin SOP (MSE-16-EDP), -40 to 125 degC, Pb-Free, Tape and Reel; Manufacturer: Linear Technology; PartNumber: LTC3765EMSE#TRPBF; Number of Outputs: 1; PackageReference: MSE-16; PackageDescription: 16-Pin Plastic MSOP, Exposed Die Pad, Body 4.039 x 3 mm, Pitch 0.5 mm; Supplier 1: Digi-Key; Supplier Part Number 1: LTC3765EMSE#TRPBF-ND; RoHS: TRUE
footprint LT-MSE-16-EDP_N (SOP, 16-Leads, Body 4.1x3.1mm, Pitch 0.5mm, Thermal Pad 2.95x1.76mm, IPC Medium Density)
footprint LT-MSE-16-EDP_L (SOP, 16-Leads, Body 4.1x3.1mm, Pitch 0.5mm, Thermal Pad 2.95x1.76mm, IPC High Density)
footprint LT-MSE-16-EDP_M (SOP, 16-Leads, Body 4.1x3.1mm, Pitch 0.5mm, Thermal Pad 2.95x1.76mm, IPC Low Density)
pins: 1 PGND (power) "Power Ground. Ground return for the high current gate drivers.", 2 PG (out) "Primary Gate. Gate drive for the primary switch NMOS.", 3 VCC (power) "Main Supply Pin. A ceramic bypass capacitor should be tied between this pin and ground.", 4 AG (out) "Active Gate. Gate drive for the active clamp PMOS. This drive output is “in phase?with the PG output. Connect to the gate of a PMOS through a capacitive level-shift circuit.", 5 ISMAG (in) "Magnetizing Current Sense Pin. Connect to a current sense resistor in series with the source of the active clamp PMOS. This pin limits the magnetizing current of the main transformer to prevent core saturation when the (See Datasheet)", 6 DELAY (in) "Primary Gate Rising Delay Adjustment. A resistor from this pin to ground sets the AG rising to PG rising dead time, which is critical for optimizing efficiency.", 7 IS- (in) "Inputs to the Overcurrent Comparator. Connect across a current sense resistor in series with the source of the primary NMOS.", 8 IS+ (in) "Inputs to the Overcurrent Comparator. Connect across a current sense resistor in series with the source of the primary NMOS.", 9 SGND (power) "Signal Ground. The exposed pad metal of the package provides good thermal contact to the printed circuit board. It must be soldered to a ground plane for rated thermal performance.", 10 FS/UV (io) "Oscillator Frequency Set and Undervoltage Indicator. A resistor to ground sets the switching frequency during start-up. When the RUN pin is low, the VCC supply is undervoltage, or the overtemperature protection is active, a (See Datasheet)", 11 RCORE (in) "Transformer Core Saturation Limit. A resistor from RCORE to ground proportional to transformer core parameters internally replicates the magnetizing current slope when the primary NMOS is on. This slope in combination with (See Datasheet)", 12 RUN (in) "Run Control and Undervoltage Lockout (UVLO). Connect to a resistor divider to monitor the input voltage VIN, which is required for proper operation of the Direct Flux Limit. Converter operation is enabled for VRUN > 1.25V. (See Datasheet)", 13 SSFLT (io) "Combination Soft-Start and Fault Indicator. A capacitor to ground sets the duty cycle ramp-up rate during primary-side start-up. To indicate a fault, the SSFLT pin is momentarily pulled above 6V.", 14 NDRV (out) "Drive for External Linear Regulator. Connect to the gate of an NMOS and connect a pull-up resistor to the main input voltage, VIN. An internal charge pump drives this pin above VIN for low input voltage applications.", 15 IN+ (power) "Inputs from Pulse Transformer. Connect through a DC restoring capacitor to the output winding of a pulse transformer. The input winding of the pulse transformer is driven by the LTC3766. After performing an initial open-loop (See Datasheet)", 16 IN- (power) "Inputs from Pulse Transformer. Connect through a DC restoring capacitor to the output winding of a pulse transformer. The input winding of the pulse transformer is driven by the LTC3766. After performing an initial open-loop (See Datasheet)", 17 EP (power) "Signal Ground. The exposed pad metal of the package provides good thermal contact to the printed circuit board. It must be soldered to a ground plane for rated thermal performance."

## LTC3765HMSE#PBF
designator U?
Active Clamp Forward Controller and Gate Driver, 16-pin SOP (MSE-16-EDP), -40 to 150 degC, Pb-Free; Manufacturer: Linear Technology; PartNumber: LTC3765HMSE#PBF; Number of Outputs: 1; PackageReference: MSE-16; PackageDescription: 16-Pin Plastic MSOP, Exposed Die Pad, Body 4.039 x 3 mm, Pitch 0.5 mm; Supplier 1: Digi-Key; Supplier Part Number 1: LTC3765HMSE#PBF-ND; RoHS: TRUE
footprint LT-MSE-16-EDP_N (SOP, 16-Leads, Body 4.1x3.1mm, Pitch 0.5mm, Thermal Pad 2.95x1.76mm, IPC Medium Density)
footprint LT-MSE-16-EDP_L (SOP, 16-Leads, Body 4.1x3.1mm, Pitch 0.5mm, Thermal Pad 2.95x1.76mm, IPC High Density)
footprint LT-MSE-16-EDP_M (SOP, 16-Leads, Body 4.1x3.1mm, Pitch 0.5mm, Thermal Pad 2.95x1.76mm, IPC Low Density)
pins: 1 PGND (power) "Power Ground. Ground return for the high current gate drivers.", 2 PG (out) "Primary Gate. Gate drive for the primary switch NMOS.", 3 VCC (power) "Main Supply Pin. A ceramic bypass capacitor should be tied between this pin and ground.", 4 AG (out) "Active Gate. Gate drive for the active clamp PMOS. This drive output is “in phase?with the PG output. Connect to the gate of a PMOS through a capacitive level-shift circuit.", 5 ISMAG (in) "Magnetizing Current Sense Pin. Connect to a current sense resistor in series with the source of the active clamp PMOS. This pin limits the magnetizing current of the main transformer to prevent core saturation when the (See Datasheet)", 6 DELAY (in) "Primary Gate Rising Delay Adjustment. A resistor from this pin to ground sets the AG rising to PG rising dead time, which is critical for optimizing efficiency.", 7 IS- (in) "Inputs to the Overcurrent Comparator. Connect across a current sense resistor in series with the source of the primary NMOS.", 8 IS+ (in) "Inputs to the Overcurrent Comparator. Connect across a current sense resistor in series with the source of the primary NMOS.", 9 SGND (power) "Signal Ground. The exposed pad metal of the package provides good thermal contact to the printed circuit board. It must be soldered to a ground plane for rated thermal performance.", 10 FS/UV (io) "Oscillator Frequency Set and Undervoltage Indicator. A resistor to ground sets the switching frequency during start-up. When the RUN pin is low, the VCC supply is undervoltage, or the overtemperature protection is active, a (See Datasheet)", 11 RCORE (in) "Transformer Core Saturation Limit. A resistor from RCORE to ground proportional to transformer core parameters internally replicates the magnetizing current slope when the primary NMOS is on. This slope in combination with (See Datasheet)", 12 RUN (in) "Run Control and Undervoltage Lockout (UVLO). Connect to a resistor divider to monitor the input voltage VIN, which is required for proper operation of the Direct Flux Limit. Converter operation is enabled for VRUN > 1.25V. (See Datasheet)", 13 SSFLT (io) "Combination Soft-Start and Fault Indicator. A capacitor to ground sets the duty cycle ramp-up rate during primary-side start-up. To indicate a fault, the SSFLT pin is momentarily pulled above 6V.", 14 NDRV (out) "Drive for External Linear Regulator. Connect to the gate of an NMOS and connect a pull-up resistor to the main input voltage, VIN. An internal charge pump drives this pin above VIN for low input voltage applications.", 15 IN+ (power) "Inputs from Pulse Transformer. Connect through a DC restoring capacitor to the output winding of a pulse transformer. The input winding of the pulse transformer is driven by the LTC3766. After performing an initial open-loop (See Datasheet)", 16 IN- (power) "Inputs from Pulse Transformer. Connect through a DC restoring capacitor to the output winding of a pulse transformer. The input winding of the pulse transformer is driven by the LTC3766. After performing an initial open-loop (See Datasheet)", 17 EP (power) "Signal Ground. The exposed pad metal of the package provides good thermal contact to the printed circuit board. It must be soldered to a ground plane for rated thermal performance."